# Altium footprint library Keyboard_Switches.PcbLib: 4 footprints
Each footprint in its own frame and in the unit in brackets; x right, y up, seen from the top. Pads: shape width x height; smd on the part's side, far side on the other; paste and mask are expansions set on the pad; w line width, h text height; cw(c..) or ccw(c..) is an arc to the next point about the centre after c.
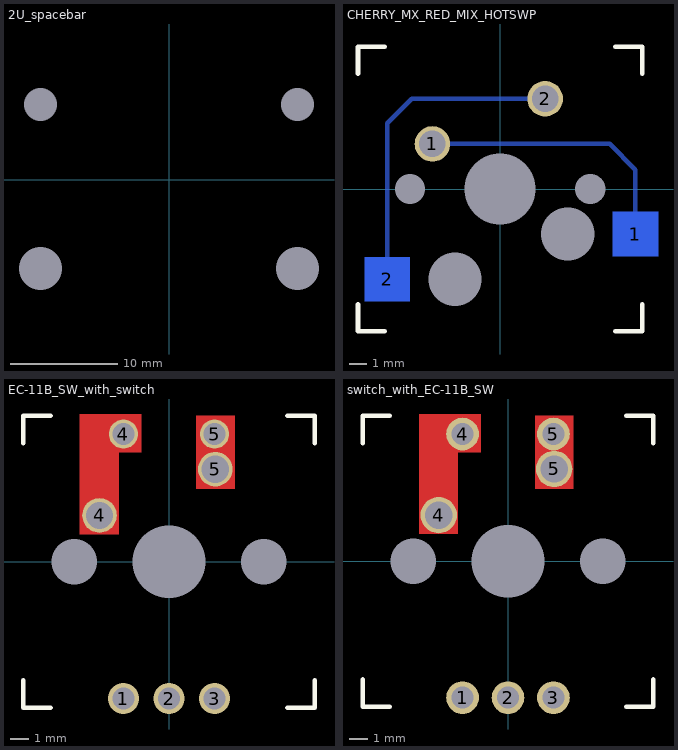
[diagram p0: the footprints below, top view; thin cyan lines are the x and y axes]

## 2U_spacebar [mm]
pads (4):
  round 0 hole 3.988 unplated: 0(-11.95,-8.255) 0(11.95,-8.255)
  round 0 hole 3.048 unplated: 0(-11.95,6.985) 0(11.95,6.985)
3D body "Stabilizer - close.STEP": height 12.35, standoff -2.5, extent -15.35,-11 15.35,8.2

## CHERRY_MX_RED_MIX_HOTSWP [mm]
pads (9):
  round 0 hole 1.7 unplated: 0(-5.08,0) 0(5.08,0)
  round 0 hole 3 unplated: 0(-2.54,-5.08) 0(3.81,-2.54)
  round 0 hole 4 unplated: 0(0,0)
  round 2 hole 1.5: 1(-3.81,2.54) 2(2.54,5.08)
  rect 2.55x2.5 smd far side: 1(7.62,-2.54) 2(-6.35,-5.08)
Bottom Layer:
  lines w0.254: -6.35,-5.08 -6.35,3.708 -4.978,5.08 2.54,5.08 ; -3.81,2.54 6.172,2.54 7.62,1.092 7.62,-2.54
Top Overlay:
  lines w0.254: -8,-6.5 -8,-8 -6.5,-8 ; -8,6.5 -8,8 -6.5,8 ; 6.5,-8 8,-8 8,-6.5 ; 6.5,8 8,8 8,6.5
3D body "Cherry_MX_RED.STEP": height 15, standoff -3, extent -7.836,-7.798 7.764,7.802
3D body "Kailh Hotswap.step": height 0.75, standoff -2.3, extent -6.6,-6.8 7.9,-0.91

## EC-11B_SW_with_switch [mm] "Rotary_Encoder_Switch"
pads (10):
  round 0 hole 2.5 unplated: 0(-5.2,0) 0(5.2,0)
  round 0 hole 4 unplated: 0(0,0)
  round 1.7 hole 1.2: 1(-2.5,-7.5) 2(0,-7.5) 3(2.5,-7.5)
  round 1.9 hole 1.5: 4(-3.81,2.54) 5(2.54,5.08)
  round 1.6 hole 1.2: 4(-2.5,7) 5(2.5,7)
Top Layer:
  rectangle: -4.902,5.994 -1.499,8.103
  rectangle: -4.9,1.5 -2.75,8.1
  region: 1.5,8 3.6,8 3.6,4 1.5,4
Top Overlay:
  lines w0.254: -8,-6.5 -8,-8 -6.5,-8 ; -8,6.5 -8,8 -6.5,8 ; 6.5,-8 8,-8 8,-6.5 ; 6.5,8 8,8 8,6.5
3D body "EC11B-SW-Vert-15K-blue.step": height 23.9, standoff -1.5, extent -5.997,-7.675 5.997,7.25

## switch_with_EC-11B_SW [mm] "Rotary_Encoder_Switch"
pads (12):
  round 0 hole 2.5 unplated: 0(-5.2,0) 0(5.2,0)
  round 0 hole 1.7 unplated: 0(-5.08,0) 0(5.08,0)
  round 0 hole 4 unplated: 0(0,0)
  round 1.8 hole 1.2 unplated: 1(-2.5,-7.5) 2(0,-7.5) 3(2.5,-7.5) 4(-2.5,7) 5(2.5,7)
  round 2 hole 1.5: 4(-3.81,2.54) 5(2.54,5.08)
Top Layer:
  rectangle: -4.9,1.5 -2.75,8.1
  rectangle: -4.902,5.994 -1.499,8.103
  region: 1.5,8 3.6,8 3.6,4 1.5,4
Top Overlay:
  lines w0.254: -8,-6.5 -8,-8 -6.5,-8 ; -8,6.5 -8,8 -6.5,8 ; 6.5,-8 8,-8 8,-6.5 ; 6.5,8 8,8 8,6.5
3D body "Cherry_MX_RED.STEP": height 15, standoff -3, extent -7.836,-7.798 7.764,7.802